# Altium schematic symbol library Drone.SchLib: 12 symbols
Pins are listed as number, name and electrical type; pins without a type are passive.

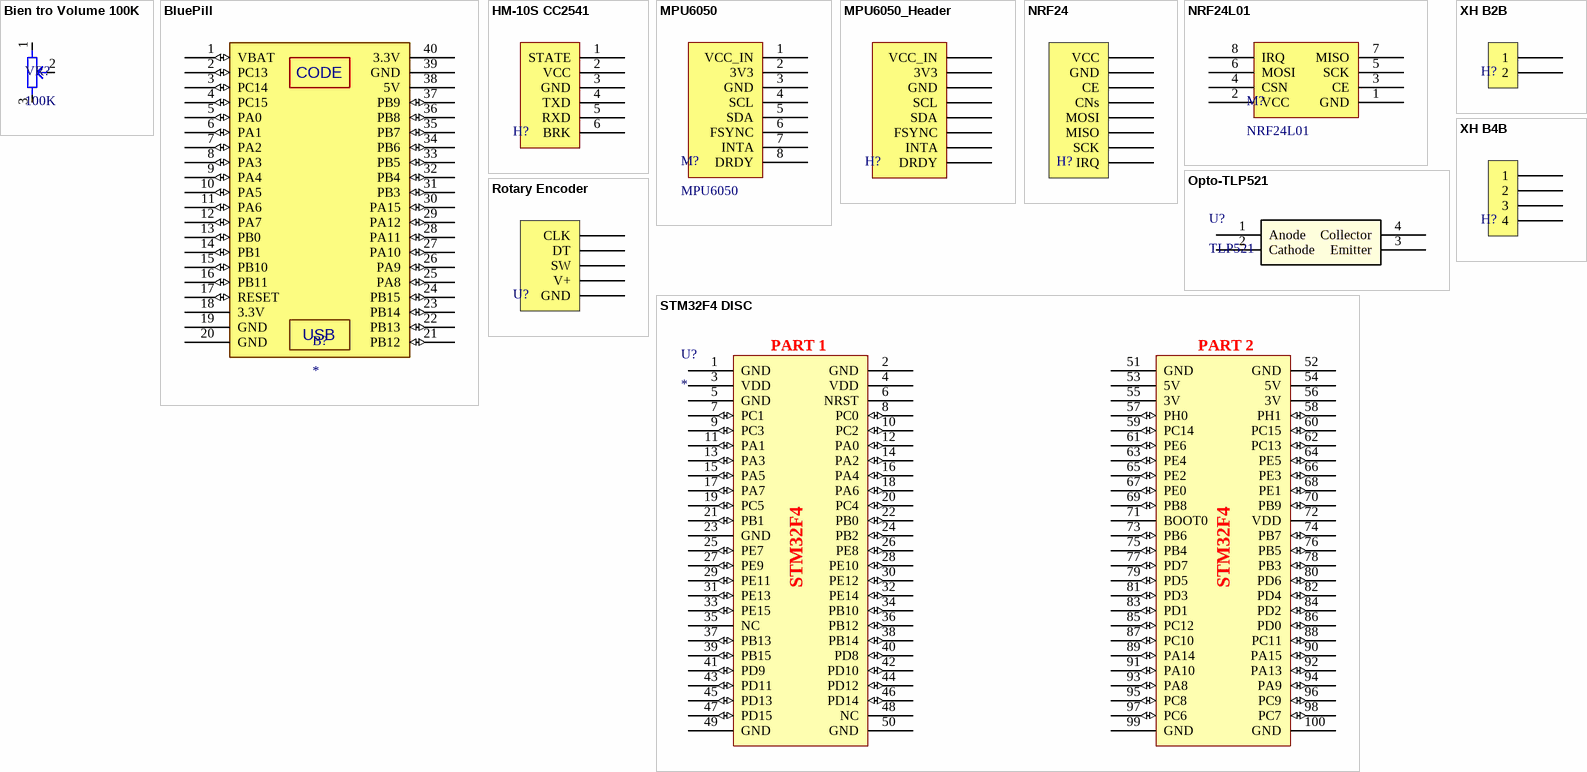
[diagram p0: symbols Bien tro Volume 100K to XH B4B]

## Bien tro Volume 100K
designator VR?, comment 100K
Cắm; Don_Vi: Con; Ten_Linh_Kien: Biến Trở Tam Giác 104-100K RM065; Ma_Hang: MH003711; Chung_Loai: Cắm; Ghi_Chu: *; Kieu_Chan: *
footprint Variable volume
pins: 1, 2, 3

## BluePill
designator B?
footprint BlUEPILL
pins: 1 VBAT (io), 2 PC13 (io), 3 PC14 (io), 4 PC15 (io), 5 PA0 (io), 6 PA1 (io), 7 PA2 (io), 8 PA3 (io), 9 PA4 (io), 10 PA5 (io), 11 PA6 (io), 12 PA7 (io), 13 PB0 (io), 14 PB1 (io), 15 PB10 (io), 16 PB11 (io), 17 RESET (io), 18 3.3V (power), 19 GND (power), 20 GND (power), 21 PB12 (io), 22 PB13 (io), 23 PB14 (io), 24 PB15 (io), 25 PA8 (io), 26 PA9 (io), 27 PA10 (io), 28 PA11 (io), 29 PA12 (io), 30 PA15 (io), 31 PB3 (io), 32 PB4 (io), 33 PB5 (io), 34 PB6 (io), 35 PB7 (io), 36 PB8 (io), 37 PB9 (io), 38 5V (power), 39 GND (power), 40 3.3V (power)
text: CODE; USB

## HM-10S CC2541
designator H?, comment HC-05-06-TH  (value not drawn)
Local Supplier: HShop; Local Supplier Link: https://hshop.vn/products/mach-thu-phat-bluetooth-hc-06-do-ra-chon-slave; Local Supplier Part Number: HS000882; Manufacturer: *; Manufacturer Part Number: *
footprint HM-10S CC2541
pins: 1 STATE, 2 VCC, 3 GND, 4 TXD, 5 RXD, 6 BRK

## MPU6050
designator M?
Local Supplier: HShop; Local Supplier Link: https://hshop.vn/products/cam-bien-gy-9250-9dof-imu-mpu9250; Local Supplier Part Number: *; Manufacturer: *; Manufacturer Part Number: *
footprint GY9250
pins: 1 VCC_IN, 2 3V3, 3 GND, 4 SCL, 5 SDA, 6 FSYNC, 7 INTA, 8 DRDY

## MPU6050_Header
designator H?  (value not drawn)
footprint XH B8B
pins: 1 VCC_IN, 2 3V3, 3 GND, 4 SCL, 5 SDA, 6 FSYNC, 7 INTA, 8 DRDY

## NRF24
designator H?  (value not drawn)
footprint XH B8B
pins: 1 VCC, 2 GND, 3 CE, 4 CNs, 5 MOSI, 6 MISO, 7 SCK, 8 IRQ

## NRF24L01
designator M?
Local Supplier: HShop; Local Supplier Link: https://hshop.vn/products/mach-thu-phat-rf-nrf24l01-pa-lna-nrf-e04; Local Supplier Part Number: HS000888; Manufacturer: *; Manufacturer Part Number: *
footprint NRF24L01
pins: 1 GND, 2 VCC, 3 CE, 4 CSN, 5 SCK, 6 MOSI, 7 MISO, 8 IRQ

## Opto-TLP521
designator U?, comment TLP521
No Description Available; SourceLibrary: Isocom_2020-02-20; Vendor: Isocom; Built_By: EMA_Colton; Manufacturer_Part_Number: TLP521; Copyright: Copyright (C) 2018 Accelerated Designs. All rights reserved; Datasheet: http://isocom.com/wp-content/uploads/2018/03/dd93208-small-tlp521-1_2-4-240817.pdf; RefDes: RefDes; Type: DEV
footprint TLP521_ISO
pins: 1 Anode, 2 Cathode, 3 Emitter, 4 Collector

## Rotary Encoder
designator U?  (value not drawn)
footprint Rotary Encoder
pins: 1 CLK, 2 DT, 3 SW, 4 V+, 5 GND

## STM32F4 DISC
designator U?
STM32F4 Discovery board. Chip on Board is Stm32f411VET6. Speed is 150MHz
footprint STM32F4 DISC
pins: 1 GND (power), 2 GND (power), 3 VDD (power), 4 VDD (power), 5 GND (power), 6 NRST, 7 PC1 (io), 8 PC0 (io), 9 PC3 (io), 10 PC2 (io), 11 PA1 (io), 12 PA0 (io), 13 PA3 (io), 14 PA2 (io), 15 PA5 (io), 16 PA4 (io), 17 PA7 (io), 18 PA6 (io), 19 PC5 (io), 20 PC4 (io), 21 PB1 (io), 22 PB0 (io), 23 GND (power), 24 PB2 (io), 25 PE7 (io), 26 PE8 (io), 27 PE9 (io), 28 PE10 (io), 29 PE11 (io), 30 PE12 (io), 31 PE13 (io), 32 PE14 (io), 33 PE15 (io), 34 PB10 (io), 35 NC, 36 PB12 (io), 37 PB13 (io), 38 PB14 (io), 39 PB15 (io), 40 PD8 (io), 41 PD9 (io), 42 PD10 (io), 43 PD11 (io), 44 PD12 (io), 45 PD13 (io), 46 PD14 (io), 47 PD15 (io), 48 NC, 49 GND (power), 50 GND (power), 51 GND (power), 52 GND (power), 53 5V (power), 54 5V (power), 55 3V (power), 56 3V (power), 57 PH0 (io), 58 PH1 (io), 59 PC14 (io), 60 PC15 (io), 61 PE6 (io), 62 PC13 (io), 63 PE4 (io), 64 PE5 (io), 65 PE2 (io), 66 PE3 (io), 67 PE0 (io), 68 PE1 (io), 69 PB8 (io), 70 PB9 (io), 71 BOOT0, 72 VDD (power), 73 PB6 (io), 74 PB7 (io), 75 PB4 (io), 76 PB5 (io), 77 PD7 (io), 78 PB3 (io), 79 PD5 (io), 80 PD6 (io), 81 PD3 (io), 82 PD4 (io), 83 PD1 (io), 84 PD2 (io), 85 PC12 (io), 86 PD0 (io), 87 PC10 (io), 88 PC11 (io), 89 PA14 (io), 90 PA15 (io), 91 PA10 (io), 92 PA13 (io), 93 PA8 (io), 94 PA9 (io), 95 PC8 (io), 96 PC9 (io), 97 PC6 (io), 98 PC7 (io), 99 GND (power), 100 GND (power)
text: PART 1; PART 2; STM32F4

## XH B2B
designator H?  (value not drawn)
footprint XH B2B
pins: 1, 2

## XH B4B
designator H?, comment XHB4B  (value not drawn)
footprint XHB4B
pins: 1, 2, 3, 4